# Altium footprint library PCB - LEADLESS - SON - INFINEON PG-TDSON-8-34.PCBLIB: 1 footprints
Each footprint in its own frame and in the unit in brackets; x right, y up, seen from the top. Pads: shape width x height; smd on the part's side, far side on the other; paste and mask are expansions set on the pad; w line width, h text height; cw(c..) or ccw(c..) is an arc to the next point about the centre after c.
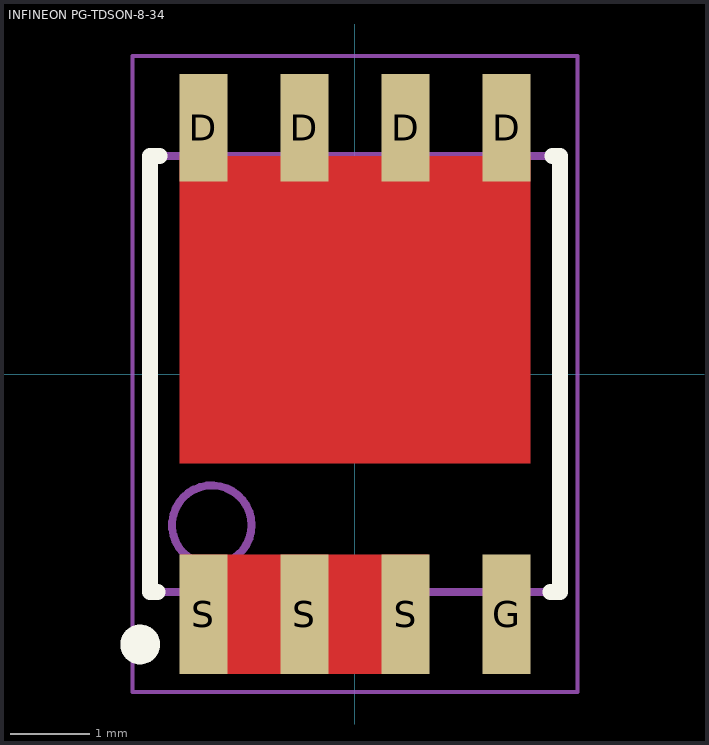
[diagram p0: the footprint, top view; thin cyan lines are the x and y axes]

## INFINEON PG-TDSON-8-34 [mm] "TDSON, 8-Leads, Body 6.44x5.15mm, Pitch 1.27mm, Thermal Pad 4.3x4.3mm, IPC Medium Density"
height 1.1
pads (8):
  rect 0.6x1.35 smd paste-1: D(-1.905,3.095) D(-0.635,3.095) D(0.635,3.095) D(1.905,3.095)
  rect 0.6x1.5 smd paste-1: G(1.905,-3.02) S(-1.905,-3.02) S(-0.635,-3.02) S(0.635,-3.02)
Top Layer:
  rectangle: -2.2,-3.77 0.925,-2.27
  region: 2.205,-1.125 2.205,2.74 -2.205,2.74 -2.205,-1.125
Top Overlay:
  circle w0.25: c-2.7,-3.4 r0.125
  lines w0.2: -2.575,2.74 -2.575,-2.74 -2.48,-2.74 ; -2.55,2.74 -2.455,2.74 ; 2.455,-2.74 2.55,-2.74 ; 2.48,2.74 2.575,2.74 2.575,-2.74
Top Paste:
  region: 1.6,2.24 0.1,2.24 0.1,0.74 1.6,0.74
  rectangle: -1.6,0.74 -0.1,2.24
  region: 1.6,-0.96 1.6,0.54 0.1,0.54 0.1,-0.96
  region: 0.896,-2.771 0.896,-2.321 0.046,-2.321 0.046,-2.771
  region: -1.304,-2.771 -1.304,-2.321 -2.154,-2.321 -2.154,-2.771
  region: -0.384,-3.721 -0.384,-2.971 -0.884,-2.971 -0.884,-3.721
  region: -0.204,-2.771 -0.204,-2.321 -1.054,-2.321 -1.054,-2.771
  region: -1.654,-3.721 -1.654,-2.971 -2.154,-2.971 -2.154,-3.721
  region: 0.886,-3.721 0.886,-2.971 0.386,-2.971 0.386,-3.721
  region: 2.155,-3.721 2.155,-2.521 1.655,-2.521 1.655,-3.721
  region: 0.385,3.72 0.385,2.52 0.885,2.52 0.885,3.72
  region: 1.655,3.72 1.655,2.52 2.155,2.52 2.155,3.72
  region: -1.655,2.52 -1.655,3.72 -2.155,3.72 -2.155,2.52
  region: -0.385,2.52 -0.385,3.72 -0.885,3.72 -0.885,2.52
  region: -0.1,-0.96 -0.1,0.54 -1.6,0.54 -1.6,-0.96
Mechanical 13:
  circle w0.1: c-1.8,-1.9 r0.5
  lines w0.1: -2.575,-2.74 -2.575,2.74 2.575,2.74 2.575,-2.74 -2.575,-2.74
Mechanical 15:
  lines w0.05: -2.8,-4 2.8,-4 2.8,4 -2.8,4 -2.8,-4
  lines w0.1: -0.5,0 0.5,0 ; 0,-0.5 0,0.5
3D body "Infineon - PG-TDSON-8-34.step": height 1.1, standoff 0, extent -2.705,-3.22 2.705,3.22